# Altium footprint library 59453061110ECHLF.PcbLib: 1 footprints
Each footprint in its own frame and in the unit in brackets; x right, y up, seen from the top. Pads: shape width x height; smd on the part's side, far side on the other; paste and mask are expansions set on the pad; w line width, h text height; cw(c..) or ccw(c..) is an arc to the next point about the centre after c.
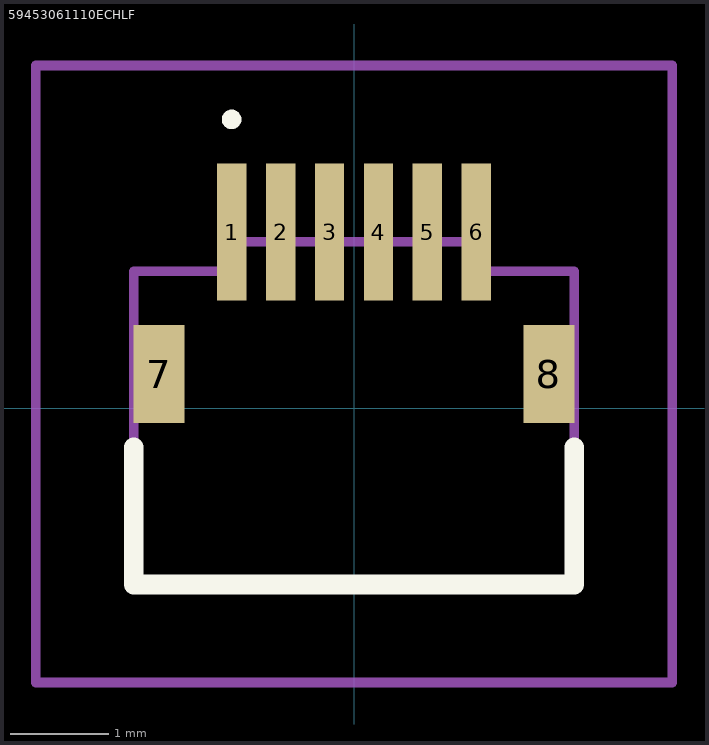
[diagram p0: the footprint, top view; thin cyan lines are the x and y axes]

## 59453061110ECHLF [mm]
pads (8):
  rect 0.3x1.4 smd: 1(-1.25,1.8) 2(-0.75,1.8) 3(-0.25,1.8) 4(0.25,1.8) 5(0.75,1.8) 6(1.25,1.8)
  rect 0.52x1 smd: 7(-1.99,0.35) 8(1.99,0.35)
Top Overlay:
  lines w0.1: -1.25,2.9 cw(c-1.25,2.95) -1.25,3 ; -1.25,2.9 -1.25,2.9 ; -1.25,2.9 ccw(c-1.25,2.95) -1.25,3 ; -1.25,3 -1.25,3
  lines w0.2: -2.25,-0.4 -2.25,-1.8 2.25,-1.8 2.25,-0.4
Mechanical 15:
  lines w0.1: -2.25,-1.8 -2.25,1.4 -1.25,1.4 -1.325,1.7 1.25,1.7 1.25,1.4 2.25,1.4 2.25,-1.8 0,-1.8 -2.25,-1.8
Mechanical 20:
  lines w0.1: -3.25,-2.8 3.25,-2.8 3.25,3.5 -3.25,3.5 -3.25,-2.8